# Altium schematic symbol library Electromechanical.SchLib: 51 symbols (part 2 of 2)
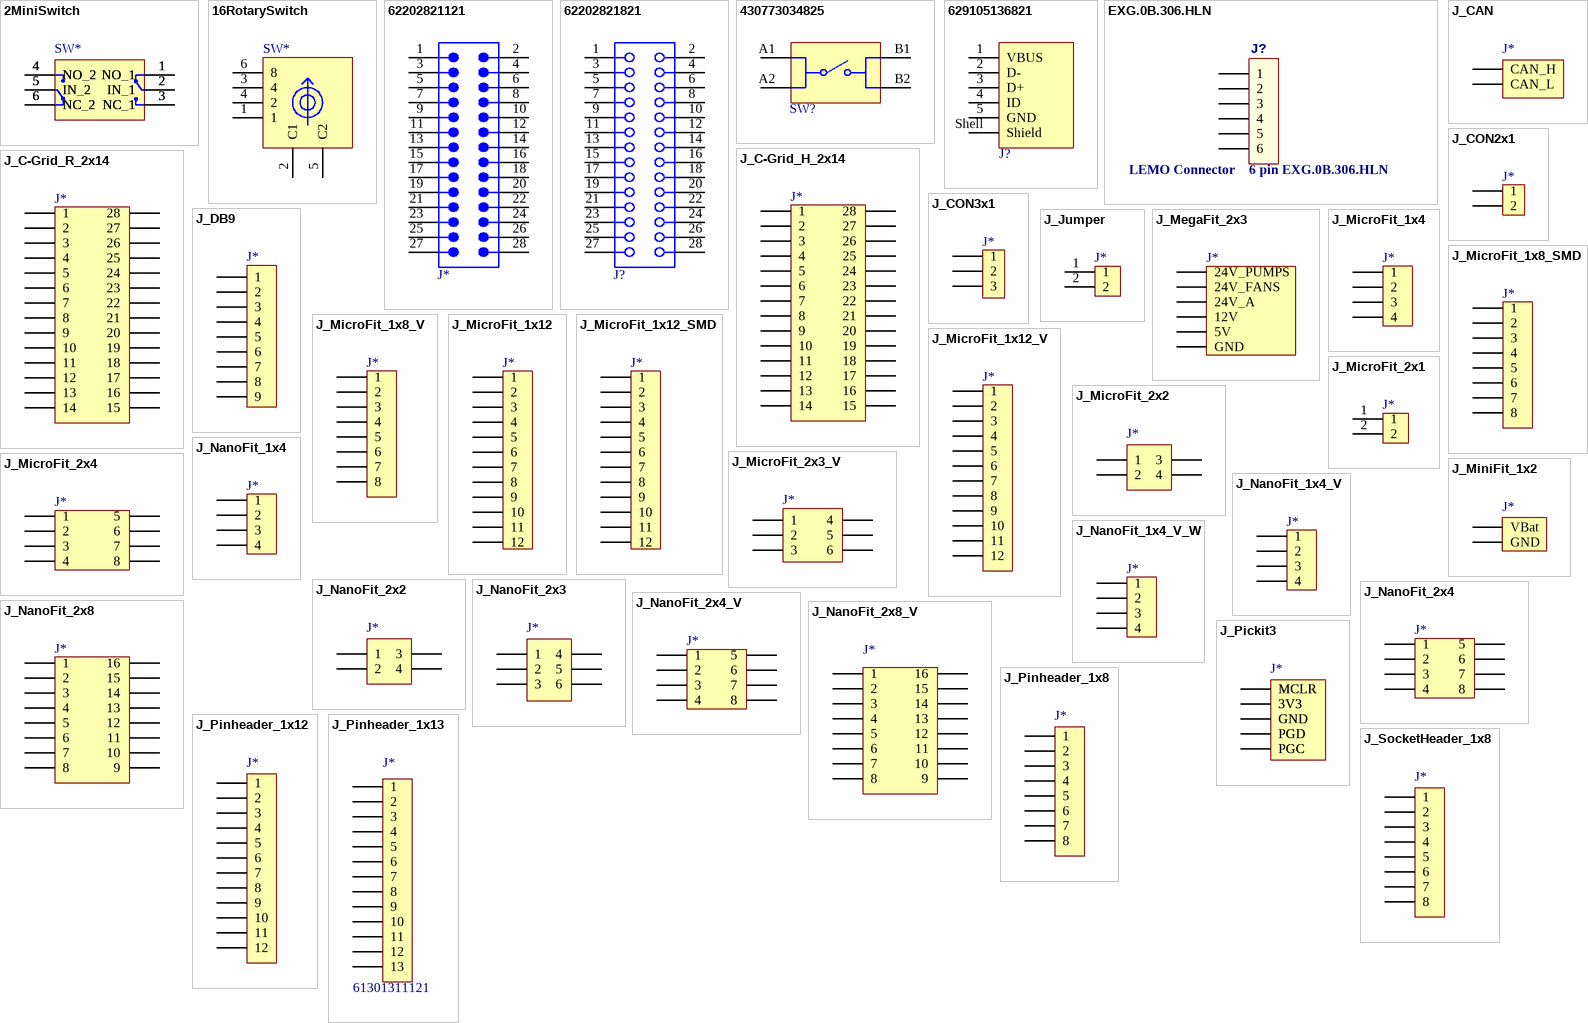
[diagram p2: symbols 2MiniSwitch to J_SocketHeader_1x8]

## J_NanoFit_2x8_V
designator J*, comment 1053101116  (value not drawn)
Nano-Fit Vertical Header Through Hole 2.50mm Pitch Dual Row 16 Circuits with Kinked Pins Tin (Sn) Plating Black; Manufacturer 1: Molex; Manufacturer Part Number 1: 105310-1116; Connector Type: Header,Male Pin; Number of Positions: 16; .Creator: AC; Supplier 1: Digi-Key; RoHS: No; Category: Headers and Wire Housings; Stock 1: 84; Pricing 1: 1=3,21000, 10=2,82400, 84=2,24619, 1008=1,86110, 4956=1,66858 (USD); Mount: Through Hole; Contact Plating: Tin; Contact Material: Brass; Contact Shape: Square; Insulation Material: Polymer; Insulation Color: Black; Min Operating Temperature: -40°C; Max Operating Temperature: 105°C; Fastening Type: Latch; Packaging: Tray; Number of Rows: 2; Termination: Kinked Pin; ComponentLink1URL: https://www.molex.com/pdm_docs/sd/1053101210_sd.pdf?src-supplier=Digi-Key; ComponentLink1Description: https://www.molex.com/pdm_docs/sd/1053101210_sd.pdf?src-supplier=Digi-Key; Supplier Part Number 1: WM16885-ND; ComponentLink2Description: Molex; ComponentLink2URL: https://www.molex.com/molex/products/part-detail/pcb_headers/1053101116
footprint J_NanoFit_2x8_V
pins: 1, 2, 3, 4, 5, 6, 7, 8, 9, 10, 11, 12, 13, 14, 15, 16

## J_Pickit3
designator J*, comment 61300511121  (value not drawn)
THT Vertical Pin Header WR-PHD, Pitch 2.54 mm, Single Row, 5 pins; Manufacturer: Molex; Temperature rating: -40° to +105°C; Category type: PCB-PCB; Maximum current: 3 A; Maximum voltage: 250 V AC; Connections: 1x5; Number of Positions: 5; Gender: Male; Connector Type: Male Pin; Pitch: 0.1inch; .Creator: GP; Category: Connector; ComponentLink1Description: Datasheet; ComponentLink1URL: https://www.we-online.com/catalog/datasheet/61300511121.pdf; ComponentLink2Description: Where buy it; ComponentLink2URL: https://www.we-online.com/catalog/en/PHD_2_54_THT_PIN_HEADER_6130XX11121?sq=61300511121&sp=https%3A%2F%2Fwww.we-online.com%2Fweb%2Fen%2Fwuerth_elektronik%2Fsearchpage.php%3Fsearch%3D61300511121#61300511121; Manufacturer part number: 61300511121; Supplier: Würth Elektronik; RoHS: *; Application: Charge program; Product name: Pin Header; Flammability: 94V-0; Orientation: vertical; Mount: Through hole; Supplier 1: Mouser; Stock 1: 1878; Pricing 1: 1=0,26000, 10=0,21600, 25=0,18000, 50=0,15000, 100=0,13700, 1000=0,12400, 10000=0,12400 (USD); Contact Plating: Gold; Contact Material: Copper; Color: Black; Number of Rows: 1; Packaging: Bulk; Termination: Solder; Number of Contacts: 5; Contact Mating Length: 0.236inch; REACH SVHC: Unknown; Lead Free: Lead Free; ComponentLink3URL: http://www.farnell.com/cad/1737268.pdf?src-supplier=Element14; ComponentLink3Description: http://www.farnell.com/cad/1737268.pdf?src-supplier=Element14; ComponentLink4URL: https://katalog.we-online.de/em/datasheet/6130xx11121.pdf?src-supplier=Digi-Key; ComponentLink4Description: https://katalog.we-online.de/em/datasheet/6130xx11121.pdf?src-supplier=Digi-Key; Supplier Part Number 1: 710-61300511121
footprint J_PinHeader_1x5
pins: 1 MCLR, 1 MCLR, 2 3V3, 2 3V3, 3 GND, 3 GND, 4 PGD, 4 PGD, 5 PGC, 5 PGC

## J_Pinheader_1x8
designator J*, comment 61301211121  (value not drawn)
THT Vertical Pin Header WR-PHD, Pitch 2.54 mm, Single Row, 12 pins; Manufacturer 1: Wurth Electronics; Number of Positions: 12; Gender: Male; Connector Type: Male Pin; Pitch: 0.1inch; Supplier 1: Digi-Key; Manufacturer Part Number 1: 61301211121; RoHS: Yes; Category: Connectors; Stock 1: 2124; Pricing 1: 1=0,57000, 10=0,48400, 25=0,40400, 50=0,33700, 100=0,30600, 1000=0,27800 (USD); Mount: Through Hole; Contact Plating: Gold; Contact Material: Copper; Color: Black; Number of Rows: 1; Packaging: Bulk; Termination: Solder; Number of Contacts: 12; Contact Mating Length: 0.236inch; REACH SVHC: Unknown; RoHS Compliant: Yes; ComponentLink1URL: http://www.farnell.com/cad/1737268.pdf?src-supplier=Element14; ComponentLink1Description: http://www.farnell.com/cad/1737268.pdf?src-supplier=Element14; ComponentLink2URL: https://katalog.we-online.de/em/datasheet/6130xx11121.pdf?src-supplier=Digi-Key; ComponentLink2Description: https://katalog.we-online.de/em/datasheet/6130xx11121.pdf?src-supplier=Digi-Key
footprint J_Pinheader_1x8 (Footprint not found)
pins: 1, 2, 3, 4, 5, 6, 7, 8

## J_Pinheader_1x12
designator J*, comment 61301211121  (value not drawn)
THT Vertical Pin Header WR-PHD, Pitch 2.54 mm, Single Row, 12 pins; Manufacturer 1: Wurth Electronics; Number of Positions: 12; Gender: Male; Connector Type: Male Pin; Pitch: 0.1inch; Supplier 1: Digi-Key; Manufacturer Part Number 1: 61301211121; RoHS: Yes; Category: Connectors; Stock 1: 2124; Pricing 1: 1=0,57000, 10=0,48400, 25=0,40400, 50=0,33700, 100=0,30600, 1000=0,27800 (USD); Mount: Through Hole; Contact Plating: Gold; Contact Material: Copper; Color: Black; Number of Rows: 1; Packaging: Bulk; Termination: Solder; Number of Contacts: 12; Contact Mating Length: 0.236inch; REACH SVHC: Unknown; RoHS Compliant: Yes; ComponentLink1URL: http://www.farnell.com/cad/1737268.pdf?src-supplier=Element14; ComponentLink1Description: http://www.farnell.com/cad/1737268.pdf?src-supplier=Element14; ComponentLink2URL: https://katalog.we-online.de/em/datasheet/6130xx11121.pdf?src-supplier=Digi-Key; ComponentLink2Description: https://katalog.we-online.de/em/datasheet/6130xx11121.pdf?src-supplier=Digi-Key
footprint J_Pinheader_1x12
pins: 1, 2, 3, 4, 5, 6, 7, 8, 9, 10, 11, 12

## J_Pinheader_1x13
designator J*, comment 61301311121
THT Vertical Pin Header WR-PHD, Pitch 2.54 mm, Single Row, 13 pins; Manufacturer 1: Wurth Electronics; Number of Positions: 12; Gender: Male; Connector Type: Male Pin; Pitch: 0.1inch; Supplier 1: Digi-Key; RoHS: Yes; Category: Connectors; Pricing 1: 1=0,57000, 10=0,48400, 25=0,40400, 50=0,33700, 100=0,30600, 1000=0,27800 (USD); Mount: Through Hole; Contact Plating: Gold; Contact Material: Copper; Color: Black; Number of Rows: 1; Packaging: Bulk; Termination: Solder; Number of Contacts: 12; Contact Mating Length: 0.236inch; REACH SVHC: Unknown; RoHS Compliant: Yes; ComponentLink1URL: http://www.farnell.com/cad/1737268.pdf?src-supplier=Element14; ComponentLink1Description: http://www.farnell.com/cad/1737268.pdf?src-supplier=Element14; ComponentLink2URL: https://katalog.we-online.de/em/datasheet/6130xx11121.pdf?src-supplier=Digi-Key; ComponentLink2Description: https://katalog.we-online.de/em/datasheet/6130xx11121.pdf?src-supplier=Digi-Key; Supplier 2: Rs; Manufacturer: Wurth Electronics; Manufacturer Part Number: 61301311121; Stock 2: 90; Pricing 2: 5=0,69, 100=0,358, 375=0,34, 1500=0,324, 3000=0,306 (EUR); Mounting Technology: Through Hole; Series: WR-PHD; Contact Type: Male Pin; Reach SVHC Compliant: Unknown; Lead Free: Lead Free
footprint J_Pinheader_1x13
pins: 1, 2, 3, 4, 5, 6, 7, 8, 9, 10, 11, 12, 13

## J_SocketHeader_1x8
designator J*  (value not drawn)
THT Vertical Socket Header WR-PHD, Pitch 2.54 mm, Single Row, 8 pins; Manufacturer: Wurth Electronics; Manufacturer Part Number: 61300811821; Gender: Female; Supplier 1: RSComponents; RoHS: Yes; Stock 1: 10; Pricing 1: 400=0,23900 (GBP); Contact Material: Copper Alloy; RoHS Compliant: Yes; Supplier Part Number 1: 2053205
footprint J_SocketHeader_1x8
pins: 1, 2, 3, 4, 5, 6, 7, 8

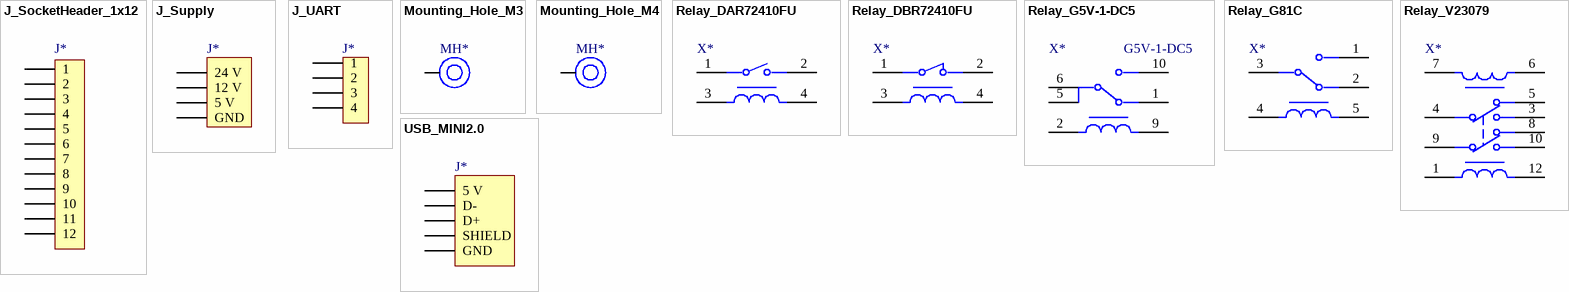
[diagram p1: symbols J_SocketHeader_1x12 to USB_MINI2.0]

## J_SocketHeader_1x12
designator J*, comment 61301211821  (value not drawn)
THT Vertical Socket Header WR-PHD, Pitch 2.54 mm, Single Row, 12 pins; Manufacturer: Wurth Electronics; Gender: Female; Supplier 1: RSComponents; Manufacturer Part Number: 61301211821; RoHS: Yes; Stock 1: 2; Pricing 1: 280=0,38600 (GBP); Contact Material: Copper Alloy; RoHS Compliant: Yes; Supplier Part Number 1: 2053162
footprint J_SocketHeader_1x12
pins: 1, 2, 3, 4, 5, 6, 7, 8, 9, 10, 11, 12

## J_Supply
designator J*, comment 1053141104  (value not drawn)
Nano-Fit Right Angle Header Through Hole 2.50mm Pitch Dual Row 4 Circuits Tin (Sn) Plating Black; Manufacturer: Molex; Temperature rating: -40° to +105°C; Category type: PCB header; Maximum current: 7.5 A; Maximum voltage: 750 V AC; Connections: 2x2; .Creator: GP; Category: Connector; ComponentLink1Description: Datasheet; ComponentLink1URL: https://www.molex.com/molex/products/part-detail/pcb_headers/1053141104; ComponentLink2Description: Where buy it; ComponentLink2URL: *; Manufacturer part number: 1053141104; Supplier: *; RoHS: *; Application: Wire to board; Product name: Nano-Fit; Flammability: 94V-0; Orientation: Right Angle; Mount: Through hole; Supplier 1: Digi-Key; Stock 1: 3160; Pricing 1: 1=1,25000, 10=1,03600, 300=0,86330, 1200=0,69065, 5100=0,60432, 10200=0,57410 (USD); ComponentLink3URL: http://www.farnell.com/datasheets/2551094.pdf?src-supplier=Farnell; ComponentLink3Description: http://www.farnell.com/datasheets/2551094.pdf?src-supplier=Farnell; ComponentLink4URL: http://www.farnell.com/datasheets/2551094.pdf?src-supplier=Newark; ComponentLink4Description: http://www.farnell.com/datasheets/2551094.pdf?src-supplier=Newark; Supplier Part Number 1: WM16907-ND
footprint J_NanoFit_2x2
footprint J_NanoFit_2x2_V
pins: 1 GND (power), 2 5 V (power), 3 12 V (power), 4 24 V (power)

## J_UART
designator J*, comment 61300411121  (value not drawn)
CONN HEADER 4 POS 2.54; Manufacturer 1: Wurth Electronics; Number of Positions: 4; Gender: Male; Connector Type: Male Pin; Pitch: 0.1inch; .Creator: AC; Supplier 1: RSComponents; Manufacturer Part Number 1: 61300411121; RoHS: Yes; Category: Headers and Wire Housings; Stock 1: 1; Pricing 1: 5=0,19500, 250=0,08000, 500=0,07700, 2500=0,07500, 5000=0,07200 (USD); Mount: Through Hole; Contact Plating: Gold; Contact Material: Copper; Color: Black; Number of Rows: 1; Packaging: Bulk; Termination: Solder; Number of Contacts: 4; Contact Mating Length: 0.236inch; REACH SVHC: Unknown; Lead Free: Lead Free; RoHS Compliant: Yes; ComponentLink1URL: http://www.farnell.com/cad/1737268.pdf?src-supplier=Element14; ComponentLink1Description: http://www.farnell.com/cad/1737268.pdf?src-supplier=Element14; ComponentLink2URL: https://katalog.we-online.de/em/datasheet/6130xx11121.pdf?src-supplier=Digi-Key; ComponentLink2Description: https://katalog.we-online.de/em/datasheet/6130xx11121.pdf?src-supplier=Digi-Key; Supplier Part Number 1: 8281594
footprint J_PinHeader_1x4
pins: 1, 2, 3, 4

## Mounting_Hole_M3
designator MH*  (value not drawn)
footprint Mounting_Hole_M3
pins: 1

## Mounting_Hole_M4
designator MH*  (value not drawn)
footprint Mounting_Hole_M4 (Footprint not found)
pins: 1

## Relay_DAR72410FU
designator X*, comment DAR72410FU  (value not drawn)
Relay; Reed; SPST N/O 10kV Isolation 24V Coil (Flying Lead) UL; Manufacturer: Cynergy3; Coil Current: 30.7mA; Operate Time: 3ms; Release Time: 2ms; Coil Resistance: 780R; Coil Type: Non-Latching; Contact Current Rating: 3A; Supplier 1: Newark; Manufacturer Part Number: DAR72410FU; RoHS: No; Category: Power Relays; Mount: Through Hole; Min Operating Temperature: -20°C; Max Operating Temperature: 70°C; Packaging: Bulk; Throw Configuration: SPST; Termination: Wire Leads; Relay Type: Reed; Coil Voltage (DC): 24V; REACH SVHC: No SVHC; RoHS Compliant: No; ComponentLink1URL: http://www.cynergy3.com/sites/default/files/DA%28UL%29%20series%202016.pdf?src-supplier=Digi-Key; ComponentLink1Description: http://www.cynergy3.com/sites/default/files/DA%28UL%29%20series%202016.pdf?src-supplier=Digi-Key; ComponentLink2URL: http://www.farnell.com/datasheets/2145120.pdf?src-supplier=Element14; ComponentLink2Description: http://www.farnell.com/datasheets/2145120.pdf?src-supplier=Element14; Supplier Part Number 1: 98Y7538
footprint Relay_DAR72410FU
pins: 1, 2, 3, 4

## Relay_DBR72410FU
designator X*, comment DBR72410FU  (value not drawn)
Relay, Reed Switch, SPNC, Rhodium Cntcts, 24VDC, 10kV Isol., PCB Mnt/Coil Conn./FL HV; Manufacturer: Cynergy3; Number of Poles: 1; Current Rating: 3A; Voltage Rating (DC): 24V; Coil Current: 25.9mA; Throw Configuration: SPST; Operate Time: 2ms; Release Time: 3ms; Coil Resistance: 925R; Contact Resistance: 50mR; Coil Type: Non-Latching; Life (Hours): 100000Hour; Supplier 1: Newark; Manufacturer Part Number: DBR72410F; RoHS: Yes; Category: Power Relays; Mount: Through Hole,PCB; Number of Pins: 4; Contact Material: Rhodium; Min Operating Temperature: -20°C; Max Operating Temperature: 70°C; Packaging: Tray; Package Quantity: 20; Termination: Wire Leads; Relay Type: Reed; Coil Voltage (DC): 24V; Contact Current Rating: 3A; Series: D; Length: 60mm; Height: 18.5mm; Depth: 15.8mm; RoHS Compliant: Yes; ComponentLink1URL: https://datasheet.ciiva.com/15041/dseries-15041454.pdf?src-supplier=Digi-Key; ComponentLink1Description: https://datasheet.ciiva.com/15041/dseries-15041454.pdf?src-supplier=Digi-Key; Supplier Part Number 1: 89C4343
footprint Relay_DAR72410FU
pins: 1, 2, 3, 4

## Relay_G5V-1-DC5
designator X*, comment G5V-1-DC5
Electromechanical Relay SPDT 1A 5VDC 167Ohm Through Hole; Manufacturer: Omron; Max Voltage Rating (AC): 125V; Max Voltage Rating (DC): 60V; Coil Current: 30mA; Operate Time: 5ms; Coil Power: 150mW; Coil Resistance: 167R; Coil Type: Non-Latching; Coil Voltage (DC): 5V; Number of Poles: 1; Relay Type: General Purpose; Insulation Resistance: 1GR; Approvals: UL,CSA; .Creator: DO; Supplier 1: Avnet; Manufacturer Part Number: G5V-1-DC5; RoHS: Yes; Category: Signal Relays; Stock 1: 10; Pricing 1: 1=1,32941, 10=1,30681, 30=1,28421, 50=1,25430, 100=1,24300 (USD); Mount: Through Hole,PCB; Case/Package: DIP; Number of Pins: 6; Contact Material: Gold,Silver; Min Operating Temperature: -40°C; Max Operating Temperature: 70°C; Contact Current Rating: 1A; Max Current Rating: 1A; Throw Configuration: SPDT; Termination: PC Pin; Packaging: Bulk; Power Consumption: 150mW; Package Quantity: 25; Voltage Rating (AC): 125V; Voltage Rating (DC): 60V; Release Time: 5ms; Current Rating: 1A; Type: Electromechanical; Length: 12.5mm; Width: 7.5mm; Height: 10mm; Depth: 7.5mm; Radiation Hardening: No; REACH SVHC: Unknown; Lead Free: Lead Free; ComponentLink1URL: https://datasheet.ciiva.com/1525/96550-1525281.pdf?src-supplier=Element14; ComponentLink1Description: https://datasheet.ciiva.com/1525/96550-1525281.pdf?src-supplier=Element14; ComponentLink2URL: https://datasheet.ciiva.com/19455/187240-19455238.pdf?src-supplier=Jameco; ComponentLink2Description: https://datasheet.ciiva.com/19455/187240-19455238.pdf?src-supplier=Jameco; ComponentLink3URL: https://datasheet.ciiva.com/26921/getdatasheetpartid-765626-26921061.pdf?src-supplier=Verical; ComponentLink3Description: https://datasheet.ciiva.com/26921/getdatasheetpartid-765626-26921061.pdf?src-supplier=Verical; ComponentLink4URL: https://datasheet.ciiva.com/18421/70175634-18421511.pdf?src-supplier=Allied+Electronics; ComponentLink4Description: https://datasheet.ciiva.com/18421/70175634-18421511.pdf?src-supplier=Allied+Electronics; ComponentLink5URL: https://datasheet.ciiva.com/15718/g5v-1-15718184.pdf?src-supplier=Onlinecomponents.com; ComponentLink5Description: https://datasheet.ciiva.com/15718/g5v-1-15718184.pdf?src-supplier=Onlinecomponents.com; ComponentLink6URL: https://datasheet.ciiva.com/2416/g5v-1-0911-2416495.pdf?src-supplier=Digi-Key; ComponentLink6Description: https://datasheet.ciiva.com/2416/g5v-1-0911-2416495.pdf?src-supplier=Digi-Key; ComponentLink7URL: https://datasheet.ciiva.com/30083/en-g5v-1-30083503.pdf?src-supplier=Onlinecomponents.com; ComponentLink7Description: https://datasheet.ciiva.com/30083/en-g5v-1-30083503.pdf?src-supplier=Onlinecomponents.com; ComponentLink8Description: Where buy it; ComponentLink8URL: https://es.rs-online.com/web/p/reles-sin-enclavamiento/8411420/?relevancy-data=7365617263685F636173636164655F6F726465723D31267365617263685F696E746572666163655F6E616D653D4931384E53656172636847656E65726963267365617263685F6C616E67756167655F757365643D6573267365617263685F6D617463685F6D6F64653D6D61746368616C6C7061727469616C267365617263685F7061747465726E5F6D6174636865643D5E5B5C707B4C7D5C707B4E647D2D2C2F255C2E5D2B24267365617263685F7061747465726E5F6F726465723D313333267365617263685F73745F6E6F726D616C697365643D59267365617263685F726573706F6E73655F616374696F6E3D267365617263685F747970653D4B4559574F52445F53494E474C455F414C5048415F4E554D45524943267365617263685F7370656C6C5F636F72726563745F6170706C6965643D59267365617263685F77696C645F63617264696E675F6D6F64653D4E4F4E45267365617263685F6B6579776F72643D4735562D312D444335267365617263685F6B6579776F72645F6170703D4735562D312D444335267365617263685F636F6E6669673D3126&searchHistory=%7B%22enabled%22%3Atrue%7D; Supplier Part Number 1: G5V-1-DC5
footprint Relay_G5V-1-DC5
pins: 1, 2, 5, 6, 9, 10

## Relay_G81C
designator X*
G81C335 High Voltage Relay; Manufacturer: Gigavac; Supplier 1: Newark; Manufacturer Part Number: G81C335; RoHS: Yes; RoHS Compliant: Yes
footprint Relay_G81C
pins: 1, 2, 3, 4, 5

## Relay_V23079
designator X*
Electromechanical Relay 5VDC 178Ohm 2A DPDT (14.5x7.2x9.8)mm THT Signal Relay; Manufacturer 1: TE Connectivity Axicom; Manufacturer Part Number 1: 3-1393788-3; Voltage Rating (AC): 250V; Voltage Rating (DC): 220V; Coil Current: 28.09mA; Coil Resistance: 178R; Operate Time: 4ms; Coil Power: 140mW; Power Consumption: 130mW; Coil Voltage (DC): 5V; Relay Type: General Purpose; Coil Type: Latching, Dual Coil; Supplier 1: RSComponents; RoHS: Yes; Category: Signal Relays; Stock 1: 3138; Pricing 1: 10=4,27000, 25=4,08000, 50=3,83000, 100=3,62000 (EUR); Mount: Through Hole,PCB; Case/Package: DIP; Number of Pins: 10; Contact Material: Gold,Silver; Contact Plating: Gold; Min Operating Temperature: -40°C; Max Operating Temperature: 85°C; Packaging: Rail/Tube; Max Current Rating: 2A; Contact Current Rating: 2A; Max Voltage Rating (AC): 250V; Max Voltage Rating (DC): 220V; Throw Configuration: DPDT; Termination: PC Pin; Series: V23079, AXICOM; Release Time: 4ms; Application(s): SIGNAL; Length: 14.5mm; Depth: 7.2mm; Radiation Hardening: No; ELV: Compliant; RoHS Compliant: Yes; ComponentLink1URL: https://datasheet.ciiva.com/6759/1486920-6759418.pdf?src-supplier=Newark; ComponentLink1Description: https://datasheet.ciiva.com/6759/1486920-6759418.pdf?src-supplier=Newark; ComponentLink2URL: https://datasheet.ciiva.com/1217/1717898-1217236.pdf?src-supplier=Element14; ComponentLink2Description: https://datasheet.ciiva.com/1217/1717898-1217236.pdf?src-supplier=Element14; ComponentLink3URL: https://datasheet.ciiva.com/30172/13997ddetrolleractionshowdocdocidspecificationorstandard7f108-98002-30172091.pdf?src-supplier=Onlinecomponents.com; ComponentLink3Description: https://datasheet.ciiva.com/30172/13997ddetrolleractionshowdocdocidspecificationorstandard7f108-98002-30172091.pdf?src-supplier=Onlinecomponents.com; Supplier Part Number 1: 515587P
footprint Relay_V23079
pins: 1, 3, 4, 5, 6, 7, 8, 9, 10, 12

## USB_MINI2.0
designator J*, comment 629105150521  (value not drawn)
Horizontal SMT Type B Version 2.0 MicroUSB Connector Socket; 30 V ac; 3A WR-COM; Manufacturer: Wurth Electronics; Connector Type: USB; Number of Contacts: 5; Gender: Receptacle; USB Standard: USB 2.0; .Creator: GP; Supplier 1: Digi-Key; Manufacturer Part Number: 629105150521; RoHS: Yes; Category: USB Connectors; Stock 1: 815; Pricing 1: 550=1,38500 (USD); Mount: Surface Mount,Horizontal; Contact Material: Copper Alloy; Contact Plating: Gold; Packaging: Tape and Reel; Termination: SMD/SMT; Orientation: Right Angle; Features: Shielded; REACH SVHC: Unknown; Lead Free: Lead Free; RoHS Compliant: Yes; ComponentLink1URL: https://datasheet.ciiva.com/48416/629105150521-48416058.pdf?src-supplier=Distrelec; ComponentLink1Description: https://datasheet.ciiva.com/48416/629105150521-48416058.pdf?src-supplier=Distrelec; Supplier Part Number 1: 732-5960-2-ND
footprint USB_MINI2.0
pins: 1 5 V (power), 2 D-, 3 D+, 4 SHIELD, 5 GND